# Altium footprint library STTH4R02U.PcbLib: 1 footprints
Each footprint in its own frame and in the unit in brackets; x right, y up, seen from the top. Pads: shape width x height; smd on the part's side, far side on the other; paste and mask are expansions set on the pad; w line width, h text height; cw(c..) or ccw(c..) is an arc to the next point about the centre after c.
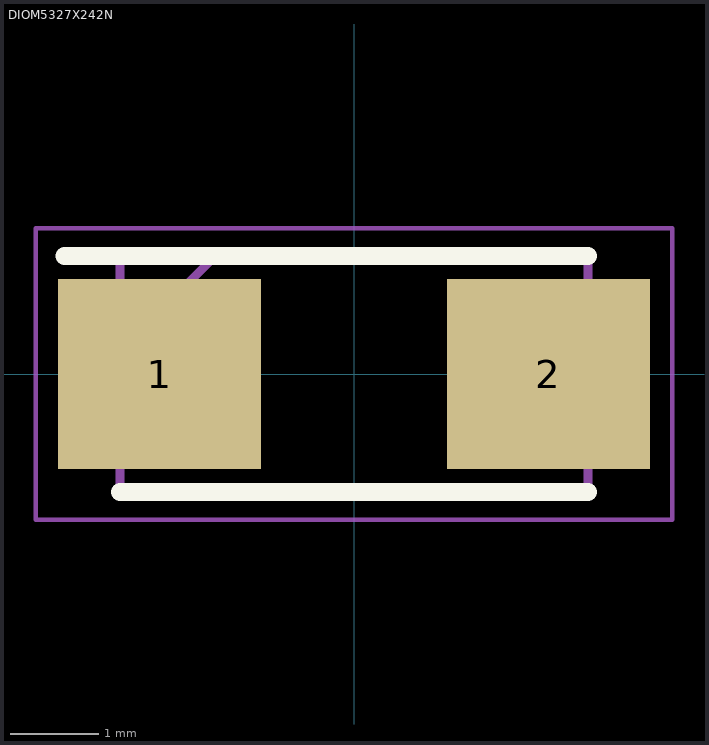
[diagram p0: the footprint, top view; thin cyan lines are the x and y axes]

## DIOM5327X242N [mm]
pads (2):
  rect 2.3x2.15 smd: 1(-2.2,0) 2(2.2,0)
Top Overlay:
  lines w0.2: -3.275,1.335 2.648,1.335 ; -2.648,-1.335 2.648,-1.335
Mechanical 13:
  lines w0.1: -2.648,0.26 -1.572,1.335 ; -2.648,-1.335 -2.648,1.335 2.648,1.335 2.648,-1.335 -2.648,-1.335
Mechanical 15:
  lines w0.05: -3.6,-1.65 -3.6,1.65 3.6,1.65 3.6,-1.65 -3.6,-1.65
3D body "1N4007.stp": height 2.42, standoff 0, extent -2.648,-1.335 2.648,1.335